# Altium schematic symbol library MISC.SchLib: 10 symbols
Pins are listed as number, name and electrical type; pins without a type are passive.

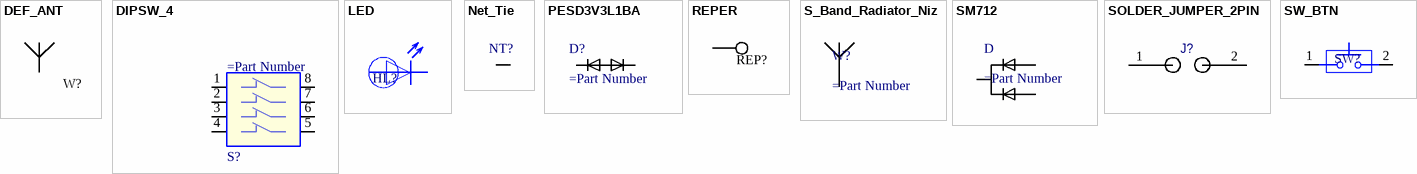
[diagram p0: symbols DEF_ANT to SW_BTN]

## DEF_ANT
designator W?
footprint REPER
footprint Model Name (Footprint not found)
footprint REPER
pins: 1

## DIPSW_4
designator S?
pins: 1, 2, 3, 4, 5, 6, 7, 8

## LED
designator HL?
pins: 1 CATHODE, 2 ANODE

## Net_Tie
designator NT?, comment Net Tie  (value not drawn)  (net tie, no BOM)
pins: 1, 2

## PESD3V3L1BA
designator D?
pins: 1 A, 2

## REPER
designator REP?  (value not drawn)
footprint REPER
footprint Model Name (Footprint not found)
footprint REPER
pins: 1

## S_Band_Radiator_Niz
designator W?
pins: 1, 2

## SM712
designator D
pins: 1, 2, 3

## SOLDER_JUMPER_2PIN
designator J?  (no BOM)
pins: 1, 2

## SW_BTN
designator SW?
pins: 1 SW1, 2 SW2